# Altium schematic symbol library eSurf_board.SchLib: 7 symbols
Pins are listed as number, name and electrical type; pins without a type are passive.

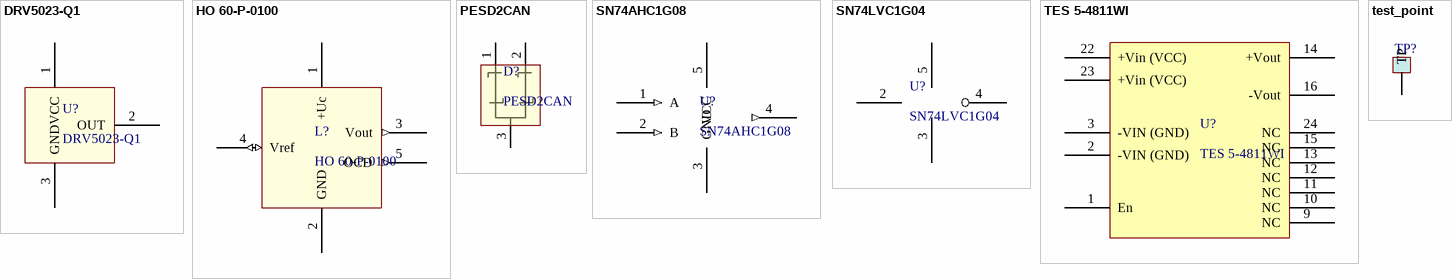
[diagram p0: symbols DRV5023-Q1 to test_point]

## DRV5023-Q1
designator U?
Digital-Switch Hall Effect Sensor, 2.7 to 38 V, +14.5 mT to +6 mT; Supplier 1: Mouser; Supplier Part Number 1: 595-DRV5033AJQDBZRQ1
footprint SOT-23 (SOT23, 3-Leads, Body 2.9x1.3mm, Pitch 0.96mm, IPC Low Density)
pins: 1 VCC, 2 OUT, 3 GND

## HO 60-P-0100
designator L?
Current transducer; Supplier 1: Digi-Key; Supplier Part Number 1: 398-1161-ND
footprint HO 60...250-P Series
pins: 1 +Uc (power), 2 GND (power), 3 Vout (out), 4 Vref (io), 5 OCD (out)

## PESD2CAN
designator D?
CAN bus ESD protection diode; Supplier 1: Mouser; Supplier Part Number 1: 771-PESD2CAN-T/R
pins: 1 CAT1, 2 CAT2, 3 GND

## SN74AHC1G08
designator U?
Single 2-Input Positive-AND Gate; Supplier 1: Mouser; Supplier Part Number 1: 595-AHC1G08QDBVRQ1
footprint SOT-23-5 (SOT23, 3-Leads, Body 2.9x1.3mm, Pitch 0.96mm, IPC Low Density)
pins: 1 A (in), 2 B (in), 3 GND (power), 4 OUT (out), 5 VCC (power)

## SN74LVC1G04
designator U?
Single Inverter Gate, 1.65V to 5.5V VCC; Supplier 1: Mouser; Supplier Part Number 1: 595-SN74LVC1G04DBVR
footprint SOT-23-5 (SOT23, 3-Leads, Body 2.9x1.3mm, Pitch 0.96mm, IPC Low Density)
pins: 2 A, 3 GND, 4 OUT, 5 VCC

## TES 5-4811WI
designator U?
DC/DC conervter (In 18 – 75 VDC / Out 5.0 VDC); Supplier 1: Mouser; Supplier Part Number 1: 495-TES5-4811WI
footprint TES 5WI (TECO power 5WI series, DC/DC converters 5 Watt)
pins: 1 En, 2 -VIN (GND), 3 -VIN (GND), 9 NC, 10 NC, 11 NC, 12 NC, 13 NC, 14 +Vout, 15 NC, 16 -Vout, 22 +Vin (VCC), 23 +Vin (VCC), 24 NC

## test_point
designator TP?
Test point
footprint test_point
pins: 1 TP "Test point"